# Altium schematic symbol library dsau_power.SchLib: 7 symbols
Pins are listed as number, name and electrical type; pins without a type are passive.

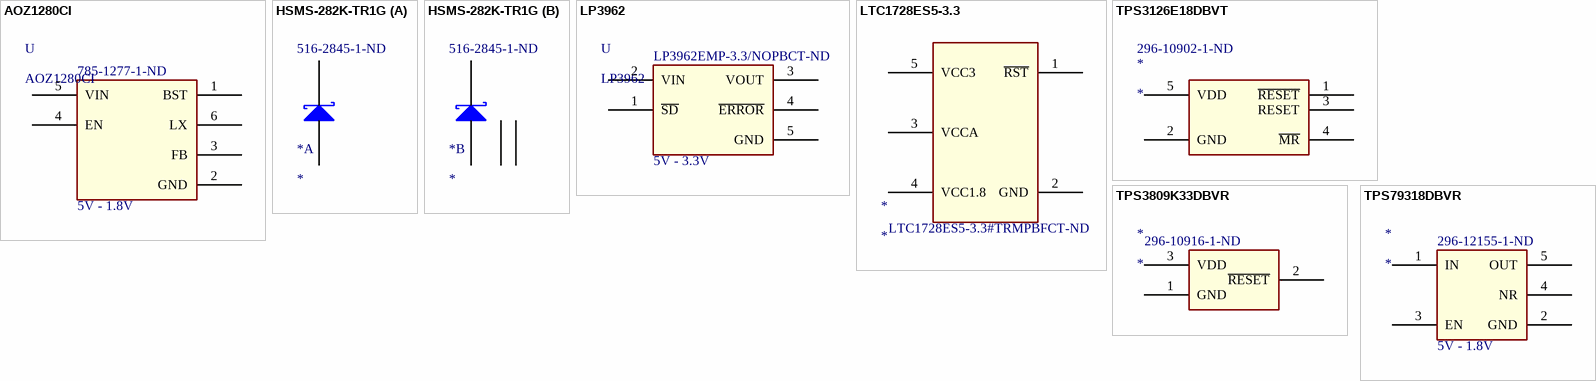
[diagram p0: symbols AOZ1280CI to TPS79318DBVR]

## AOZ1280CI
designator U  Supplier Part Number 1: 785-1277-1-ND
Supplier 1: Digi-Key
footprint SOT26A-6AN (SOT23, 6-Leads, Body 2.9x1.6mm, Pitch 0.95mm, Lead Span 2.5mm, IPC Medium Density)
pins: 1 BST, 2 GND, 3 FB, 4 EN, 5 VIN, 6 LX
text: 5V - 1.8V

## HSMS-282K-TR1G
designator *  Supplier Part Number 1: 516-2845-1-ND
Supplier 1: Digi-Key
part A pins: 1, 6
part B pins: 2, 3, 4, 5

## LP3962
designator U  Supplier Part Number 1: LP3962EMP-3.3/NOPBCT-ND
Supplier 1: Digi-Key
footprint SOT223-5M (SOT223, 5-Leads, Body 6.5x3.5mm, Pitch 1.5mm, Lead Span 7mm, IPC Low Density)
pins: 1 ~{SD}, 2 VIN, 3 VOUT, 4 ~{ERROR}, 5 GND
text: 5V - 3.3V

## LTC1728ES5-3.3
designator *  Supplier Part Number 1: LTC1728ES5-3.3#TRMPBFCT-ND
Supplier 1: Digi-Key
footprint SOT23-5AN (SOT23, 5-Leads, Body 2.9x1.6mm, Pitch 0.95mm, Lead Span 2.8mm, IPC Medium Density)
pins: 1 ~{RST}, 2 GND, 3 VCCA, 4 VCC1.8, 5 VCC3

## TPS3126E18DBVT
designator *  Supplier Part Number 1: 296-10902-1-ND
Supplier 1: Digi-Key
footprint SOT23-5BN (Footprint not found)
pins: 1 ~{RESET}, 2 GND, 3 RESET, 4 ~{MR}, 5 VDD

## TPS3809K33DBVR
designator *  Supplier Part Number 1: 296-10916-1-ND
Supplier 1: Digi-Key
footprint SOT95P240-3N (SOT23, 3-Leads, Body 2.9x1.3mm, Pitch 0.95mm, Lead Span 2.4mm, IPC Medium Density)
pins: 1 GND, 2 ~{RESET}, 3 VDD

## TPS79318DBVR
designator *  Supplier Part Number 1: 296-12155-1-ND
Supplier 1: Digi-Key
footprint SOT23-5BN (Footprint not found)
pins: 1 IN, 2 GND, 3 EN, 4 NR, 5 OUT
text: 5V - 1.8V